# Altium footprint library Footprint.PcbLib: 105 footprints (part 2 of 7)
Each footprint in its own frame and in the unit in brackets; x right, y up, seen from the top. Pads: shape width x height; smd on the part's side, far side on the other; paste and mask are expansions set on the pad; w line width, h text height; cw(c..) or ccw(c..) is an arc to the next point about the centre after c.
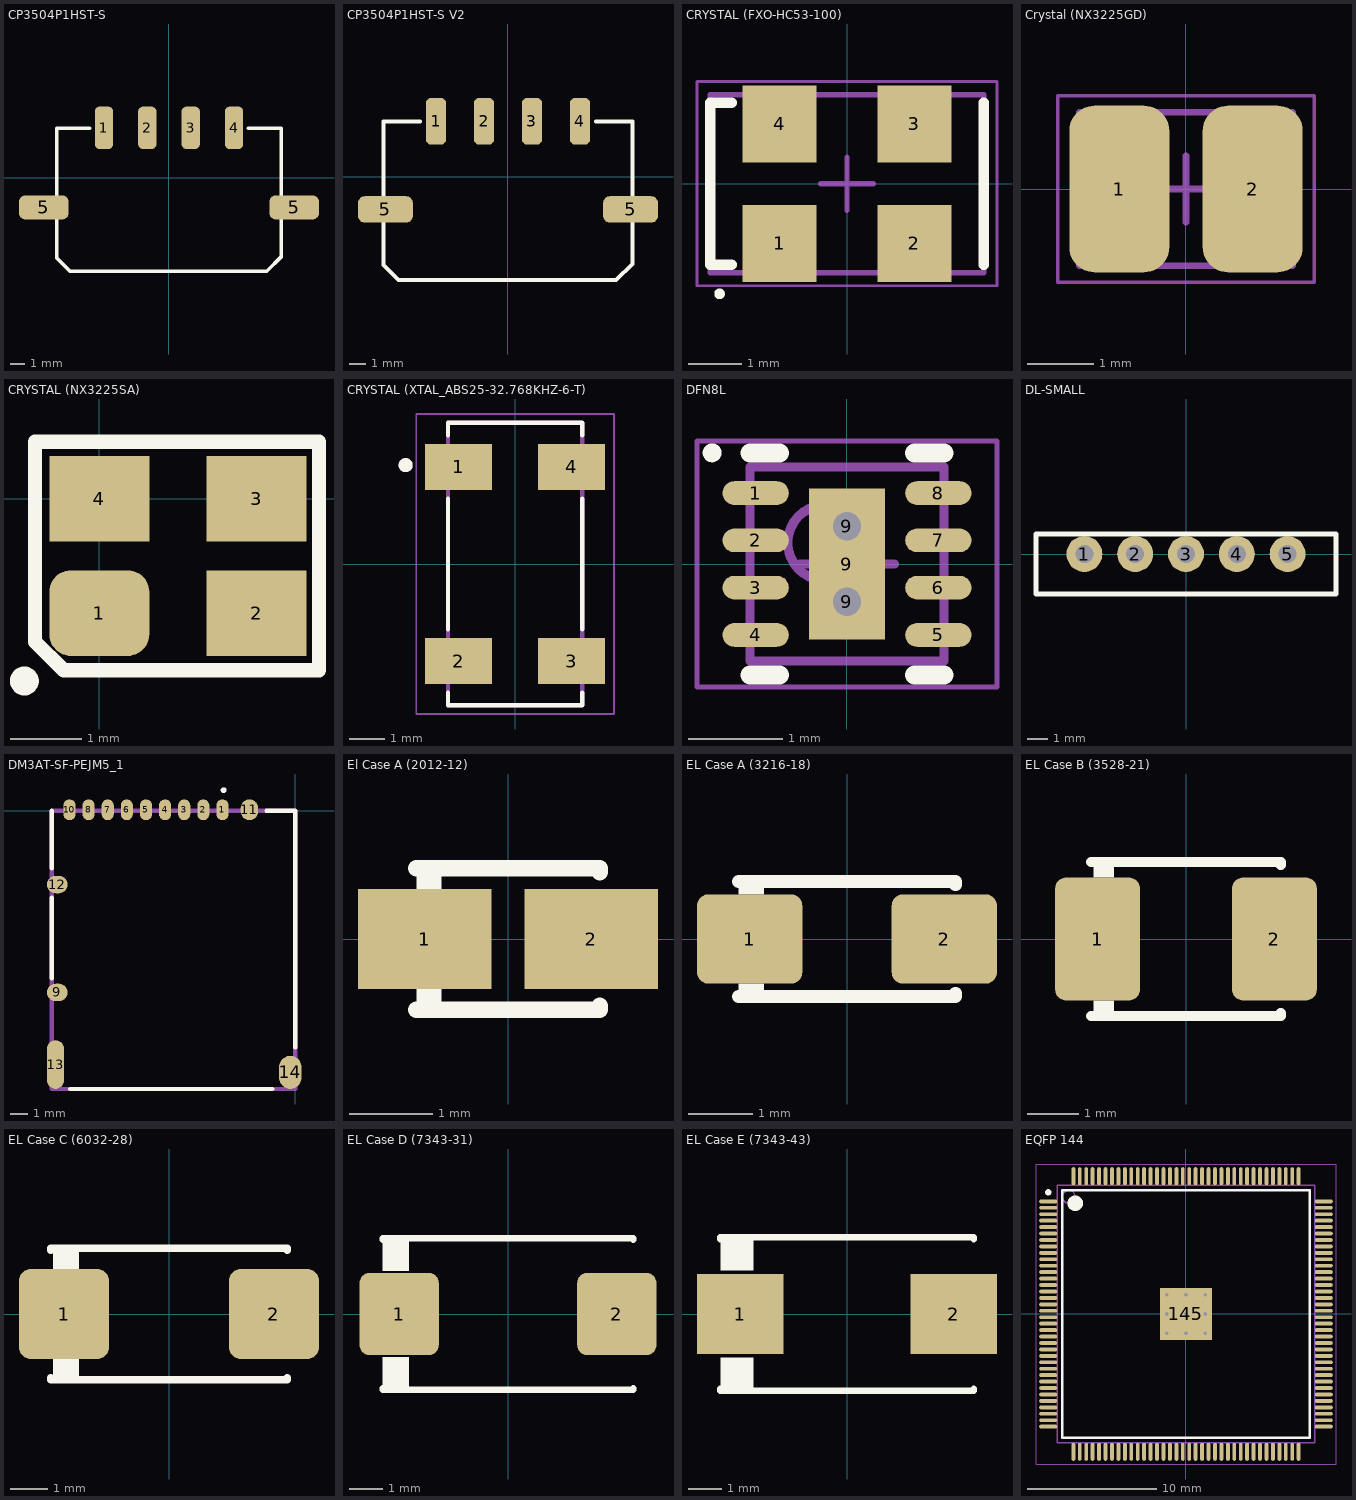
[diagram p1: the footprints below, top view; thin cyan lines are the x and y axes]

## CP3504P1HST-S [mm]
pads (6):
  rrect50% 1.27x2.92 smd: 1(-4.5,3.47) 2(-1.5,3.47) 3(1.5,3.47) 4(4.5,3.47)
  rrect50% 3.43x1.65 smd: 5(-8.66,-2.04) 5(8.66,-2.04)
Top Overlay:
  lines w0.254: -5.5,3.445 -7.775,3.445 -7.775,-5.525 -6.845,-6.455 6.758,-6.455 7.775,-5.437 7.775,3.445 5.5,3.445

## CP3504P1HST-S V2 [mm]
pads (6):
  rrect50% 1.27x2.92 smd: 1(-4.5,3.47) 2(-1.5,3.47) 3(1.5,3.47) 4(4.5,3.47)
  rrect50% 3.43x1.65 smd: 5(-7.66,-2.04) 5(7.66,-2.04)
Top Overlay:
  lines w0.254: -5.5,3.445 -7.775,3.445 -7.775,-5.525 -6.845,-6.455 6.758,-6.455 7.775,-5.437 7.775,3.445 5.5,3.445

## CRYSTAL (FXO-HC53-100) [mm]
height 1.4
pads (4):
  rect 1.4x1.45 smd: 1(-1.27,-1.125) 2(1.27,-1.125) 3(1.27,1.125) 4(-1.27,1.125)
Top Overlay:
  circle w0.1: c-2.4,-2.075 r0.05
  lines w0.2: -2.175,-1.525 -2.575,-1.525 -2.575,1.525 -2.175,1.525 ; 2.575,-1.525 2.575,1.525
Mechanical 13:
  lines w0.1: -2.575,-1.675 -2.575,1.675 2.575,1.675 2.575,-1.675 -2.575,-1.675
Mechanical 15:
  lines w0.05: -2.825,-1.925 -2.825,1.925 2.825,1.925 2.825,-1.925 -2.825,-1.925
  lines w0.1: -0.5,0 0.5,0 ; 0,-0.5 0,0.5
3D body: height 1.4, standoff 0, extent -2.575,-1.675 2.575,1.675

## Crystal (NX3225GD) [mm] "Crystal, 2-Leads, Body 3,15x2,25mm, IPC Medium Density"
height 1
pads (2):
  rrect50% 1.5x2.5 smd: 1(-1,0) 2(1,0)
Mechanical 13:
  lines w0.1: -1.6,-1.15 -1.6,1.15 1.6,1.15 1.6,-1.15 -1.6,-1.15
Mechanical 15:
  lines w0.05: -1.925,-1.4 -1.925,1.4 1.925,1.4 1.925,-1.4 -1.925,-1.4
  lines w0.1: -0.5,0 0.5,0 ; 0,-0.5 0,0.5
3D body: height 1, standoff 0, extent -1.6,-1.15 1.6,1.15

## CRYSTAL (NX3225SA) [mm]
pads (4):
  rrect50% 1.4x1.2 smd: 1(0,-1.6)
  rect 1.4x1.2 smd: 2(2.2,-1.6) 3(2.2,0) 4(0,0)
Top Overlay:
  circle w0.254: c-1.05,-2.55 r0.075
  lines w0.2: -0.9,-2 -0.5,-2.4 3.075,-2.4 3.075,0.8 -0.9,0.8 -0.9,-2
3D body: height 0.51, standoff 0, extent -0.5,-2.1 2.8,0.5

## CRYSTAL (XTAL_ABS25-32.768KHZ-6-T) [mm]
pads (4):
  rect 1.9x1.3 smd: 1(-1.6,2.75) 2(-1.6,-2.75) 3(1.6,-2.75) 4(1.6,2.75)
Top Overlay:
  circle w0.2: c-3.1,2.8 r0.1
  lines w0.127: -1.9,-3.65 -1.9,-4 1.9,-4 1.9,-3.65 ; -1.9,-1.85 -1.9,1.85 ; -1.9,3.65 -1.9,4 1.9,4 1.9,3.65 ; 1.9,-1.85 1.9,1.85
Mechanical 13:
  circle w0.2: c-3.1,2.8 r0.1
  circle w0.2: c-3.1,2.8 r0.1
  lines w0.127: -1.9,-4 -1.9,4 ; -1.9,-4 1.9,-4 ; -1.9,-4 -1.9,4 ; -1.9,-4 1.9,-4 ; -1.9,4 1.9,4 ; -1.9,4 1.9,4 ; 1.9,-4 1.9,4 ; 1.9,-4 1.9,4
Mechanical 15:
  lines w0.05: -2.8,-4.25 -2.8,4.25 2.8,4.25 2.8,-4.25 -2.8,-4.25

## DFN8L [mm] "DFN, 8-Leads, Body 2.00x2.00mm, Pitch 0.50mm, Thermal Pad 1.60x0.80mm, IPC Medium Density"
height 0.9
pads (11):
  oval 0.7x0.25 smd: 1(-0.965,0.75) 2(-0.965,0.25) 3(-0.965,-0.25) 4(-0.965,-0.75) 5(0.965,-0.75) 6(0.965,-0.25) 7(0.965,0.25) 8(0.965,0.75)
  round 0.7 hole 0.3: 9(0,-0.4) 9(0,0.4)
  rect 0.8x1.6 smd: 9(0,0)
Top Overlay:
  circle w0.1: c-1.425,1.175 r0.05
  lines w0.2: -1.025,-1.175 -0.715,-1.175 ; -1.025,1.175 -0.715,1.175 ; 0.715,-1.175 1.025,-1.175 ; 0.715,1.175 1.025,1.175
Mechanical 13:
  circle w0.1: c-0.225,0.225 r0.4
  lines w0.1: -1.025,-1.025 -1.025,1.025 1.025,1.025 1.025,-1.025 -1.025,-1.025
Mechanical 15:
  lines w0.05: -1.585,-1.3 -1.585,1.3 1.585,1.3 1.585,-1.3 -1.585,-1.3
  lines w0.1: -0.5,0 0.5,0 ; 0,-0.5 0,0.5
3D body: height 0.9, standoff 0, extent -1.025,-1.025 1.025,1.025

## DL-SMALL [mm]
pads (5):
  round 1.8 hole 0.9: 1(-5.08,0) 2(-2.54,0) 3(0,0) 4(2.54,0) 5(5.08,0)
Top Overlay:
  lines w0.254: -7.5,-2 7.5,-2 7.5,1 -7.5,1 -7.5,-2
3D body: height 20, standoff 0, extent -7.5,-2 7.5,1

## DM3AT-SF-PEJM5_1 [mm]
pads (14):
  oval 0.7x1.2 smd: 1(-4.191,0.057) 2(-5.291,0.057) 3(-6.391,0.057) 4(-7.491,0.057) 5(-8.591,0.057) 6(-9.691,0.057) 7(-10.791,0.057) 8(-11.891,0.057) 10(-12.991,0.057)
  oval 1.2x1 smd: 9(-13.691,-10.443) 12(-13.691,-4.243)
  oval 1x1.2 smd: 11(-2.641,0.057)
  oval 1x2.8 smd: 13(-13.791,-14.593)
  oval 1.3x1.9 smd: 14(-0.291,-15.043)
Top Overlay:
  circle w0.2: c-4.124,1.186 r0.068
  lines w0.254: -14,-9.625 -14,-5.012 ; -14,-3.303 -14,0 ; -12.934,-16 -1.316,-16 ; -1.657,0 0,0 0,-13.611
Mechanical 13:
  lines w0.254: -14,-16 -14,0 0,0 0,-16 -14,-16
3D body "DM3AT-SF-PEJM5.stp": height 1.68, standoff 0, extent -13.97,-16.076 -0.12,0.074

## El Case A (2012-12) [mm] "Capacitor, SM Tantalum; Body 2.0 x 1.25 mm (LxW typ)"
height 1.2
pads (2):
  rect 1.6x1.2 smd: 1(-1,0) 2(1,0)
Top Overlay:
  region: -0.8,0.8 -1.1,0.8 -1.1,0.6 -0.8,0.6
  rectangle: -1.1,-0.8 -0.8,-0.6
  lines w0.2: -1.1,-0.85 1.1,-0.85 1.1,-0.8 ; -1.1,0.85 1.1,0.85 1.1,0.8

## EL Case A (3216-18) [mm] "Capacitor, SM Tantalum; Body 3.2 x 1.6 mm (LxW typ)"
height 1.8
pads (2):
  rrect25% 1.65x1.4 smd: 1(-1.525,0) 2(1.525,0)
Top Overlay:
  region: -1.3,1 -1.7,1 -1.7,0.7 -1.3,0.7
  rectangle: -1.7,-1 -1.3,-0.7
  lines w0.2: -1.7,-0.9 1.7,-0.9 1.7,-0.85 ; -1.7,0.9 1.7,0.9 1.7,0.85
3D body "EL Case A (3216-18).STEP": height 1.61, standoff 0, extent -1.595,-0.8 1.596,0.8

## EL Case B (3528-21) [mm] "Capacitor, SM Tantalum; Body 3.5 x 2.8 mm (LxW typ)"
height 2.1
pads (2):
  rrect25% 1.65x2.4 smd: 1(-1.725,0) 2(1.725,0)
Top Overlay:
  rectangle: -1.8,-1.4 -1.4,-1.2
  rectangle: -1.8,1.2 -1.4,1.4
  lines w0.2: -1.85,-1.5 1.85,-1.5 1.85,-1.45 ; -1.85,1.5 1.85,1.5 1.85,1.45
3D body "EL Case B (3528-21).STEP": height 1.91, standoff 0, extent -1.746,-1.4 1.746,1.4

## EL Case C (6032-28) [mm] "Capacitor, SM Tantalum; Body 6.0 x 3.2 mm (LxW typ)"
height 2.8
pads (2):
  rrect25% 2.4x2.4 smd: 1(-2.8,0) 2(2.8,0)
Top Overlay:
  rectangle: -3.1,-1.7 -2.4,-1.2
  rectangle: -3.1,1.2 -2.4,1.7
  lines w0.2: -3.15,-1.7 -3.15,-1.75 3.15,-1.75 3.15,-1.7 ; -3.15,1.7 -3.15,1.75 3.15,1.75 3.15,1.7
3D body "EL Case C (6032-28).STEP": height 2.51, standoff 0, extent -2.997,-1.6 2.997,1.6

## EL Case D (7343-31) [mm] "Capacitor, SM Tantalum; Body 7.3 x 4.3 mm (LxW typ)"
height 3.1
pads (2):
  rrect25% 2.4x2.5 smd: 1(-3.3,0) 2(3.3,0)
Top Overlay:
  rectangle: -3.8,1.3 -3,2.3
  rectangle: -3.8,-2.2 -3,-1.3
  lines w0.2: -3.8,-2.25 -3.8,-2.3 3.8,-2.3 3.8,-2.25 ; -3.8,2.25 -3.8,2.3 3.8,2.3 3.8,2.25
3D body "EL Case D (7343-31).STEP": height 2.81, standoff 0, extent -3.647,-2.15 3.647,2.15

## EL Case E (7343-43) [mm] "Capacitor, SM Tantalum; Body 7.3 x 4.3 mm (LxW typ)"
height 4.3
pads (2):
  rect 2.6x2.4 smd: 1(-3.2,0) 2(3.2,0)
Top Overlay:
  rectangle: -3.8,1.3 -2.8,2.2
  rectangle: -3.8,-2.2 -2.8,-1.3
  lines w0.2: -3.8,-2.25 -3.8,-2.3 3.8,-2.3 3.8,-2.25 ; -3.8,2.25 -3.8,2.3 3.8,2.3 3.8,2.25
3D body "EL Case E (7343-43).STEP": height 4.11, standoff 0, extent -3.647,-2.15 3.647,2.15

## EQFP 144 [mm] "EQFP, 144-Leads, Body 20,00x20,00mm, Pitch 0,50mm, Thermal Pad 4,00x4,00mm, IPC Medium Density"
height 1.6
pads (145):
  oval 1.4x0.3 smd: 1(-10.7,8.75) 2(-10.7,8.25) 3(-10.7,7.75) 4(-10.7,7.25) 5(-10.7,6.75) 6(-10.7,6.25) 7(-10.7,5.75) 8(-10.7,5.25) 9(-10.7,4.75) 10(-10.7,4.25) 11(-10.7,3.75) 12(-10.7,3.25) 13(-10.7,2.75) 14(-10.7,2.25) 15(-10.7,1.75) 16(-10.7,1.25) 17(-10.7,0.75) 18(-10.7,0.25) 19(-10.7,-0.25) 20(-10.7,-0.75) 21(-10.7,-1.25) 22(-10.7,-1.75) 23(-10.7,-2.25) 24(-10.7,-2.75) 25(-10.7,-3.25) 26(-10.7,-3.75) 27(-10.7,-4.25) 28(-10.7,-4.75) 29(-10.7,-5.25) 30(-10.7,-5.75) 31(-10.7,-6.25) 32(-10.7,-6.75) 33(-10.7,-7.25) 34(-10.7,-7.75) 35(-10.7,-8.25) 36(-10.7,-8.75) 73(10.7,-8.75) 74(10.7,-8.25) 75(10.7,-7.75) 76(10.7,-7.25) 77(10.7,-6.75) 78(10.7,-6.25) 79(10.7,-5.75) 80(10.7,-5.25) 81(10.7,-4.75) 82(10.7,-4.25) 83(10.7,-3.75) 84(10.7,-3.25) 85(10.7,-2.75) 86(10.7,-2.25) 87(10.7,-1.75) 88(10.7,-1.25) 89(10.7,-0.75) 90(10.7,-0.25) 91(10.7,0.25) 92(10.7,0.75) 93(10.7,1.25) 94(10.7,1.75) 95(10.7,2.25) 96(10.7,2.75) 97(10.7,3.25) 98(10.7,3.75) 99(10.7,4.25) 100(10.7,4.75) 101(10.7,5.25) 102(10.7,5.75) 103(10.7,6.25) 104(10.7,6.75) 105(10.7,7.25) 106(10.7,7.75) 107(10.7,8.25) 108(10.7,8.75)
  oval 0.3x1.4 smd: 37(-8.75,-10.7) 38(-8.25,-10.7) 39(-7.75,-10.7) 40(-7.25,-10.7) 41(-6.75,-10.7) 42(-6.25,-10.7) 43(-5.75,-10.7) 44(-5.25,-10.7) 45(-4.75,-10.7) 46(-4.25,-10.7) 47(-3.75,-10.7) 48(-3.25,-10.7) 49(-2.75,-10.7) 50(-2.25,-10.7) 51(-1.75,-10.7) 52(-1.25,-10.7) 53(-0.75,-10.7) 54(-0.25,-10.7) 55(0.25,-10.7) 56(0.75,-10.7) 57(1.25,-10.7) 58(1.75,-10.7) 59(2.25,-10.7) 60(2.75,-10.7) 61(3.25,-10.7) 62(3.75,-10.7) 63(4.25,-10.7) 64(4.75,-10.7) 65(5.25,-10.7) 66(5.75,-10.7) 67(6.25,-10.7) 68(6.75,-10.7) 69(7.25,-10.7) 70(7.75,-10.7) 71(8.25,-10.7) 72(8.75,-10.7) 109(8.75,10.7) 110(8.25,10.7) 111(7.75,10.7) 112(7.25,10.7) 113(6.75,10.7) 114(6.25,10.7) 115(5.75,10.7) 116(5.25,10.7) 117(4.75,10.7) 118(4.25,10.7) 119(3.75,10.7) 120(3.25,10.7) 121(2.75,10.7) 122(2.25,10.7) 123(1.75,10.7) 124(1.25,10.7) 125(0.75,10.7) 126(0.25,10.7) 127(-0.25,10.7) 128(-0.75,10.7) 129(-1.25,10.7) 130(-1.75,10.7) 131(-2.25,10.7) 132(-2.75,10.7) 133(-3.25,10.7) 134(-3.75,10.7) 135(-4.25,10.7) 136(-4.75,10.7) 137(-5.25,10.7) 138(-5.75,10.7) 139(-6.25,10.7) 140(-6.75,10.7) 141(-7.25,10.7) 142(-7.75,10.7) 143(-8.25,10.7) 144(-8.75,10.7)
  rect 4x4 smd: 145(0,0)
via 0,0 diameter 0.7 hole 0.3
via -1.5,0 diameter 0.7 hole 0.3
via -1.5,1.5 diameter 0.7 hole 0.3
via 0,1.5 diameter 0.7 hole 0.3
via 1.5,1.5 diameter 0.7 hole 0.3
via 1.5,0 diameter 0.7 hole 0.3
via 1.5,-1.5 diameter 0.7 hole 0.3
via 0,-1.5 diameter 0.7 hole 0.3
via -1.5,-1.5 diameter 0.7 hole 0.3
Top Overlay:
  circle w0.6: c-8.6,8.6 r0.3
  circle w0.25: c-10.7,9.45 r0.125
  lines w0.2: -9.6,-9.6 9.6,-9.6 9.6,9.6 -9.6,9.6 -9.6,-9.6
Mechanical 13:
  circle w0.1: c-9.1,9.1 r0.5
  lines w0.1: -10,-10 10,-10 10,10 -10,10 -10,-10
Mechanical 15:
  lines w0.05: -11.65,-11.65 11.65,-11.65 11.65,11.65 -11.65,11.65 -11.65,-11.65
  lines w0.1: -0.5,0 0.5,0 ; 0,-0.5 0,0.5
3D body: height 1.6, standoff 0.05, extent -10,-10 10,10